# Altium footprint library 0.PCB1.PcbLib: 27 footprints (part 1 of 3)
Each footprint in its own frame and in the unit in brackets; x right, y up, seen from the top. Pads: shape width x height; smd on the part's side, far side on the other; paste and mask are expansions set on the pad; w line width, h text height; cw(c..) or ccw(c..) is an arc to the next point about the centre after c.
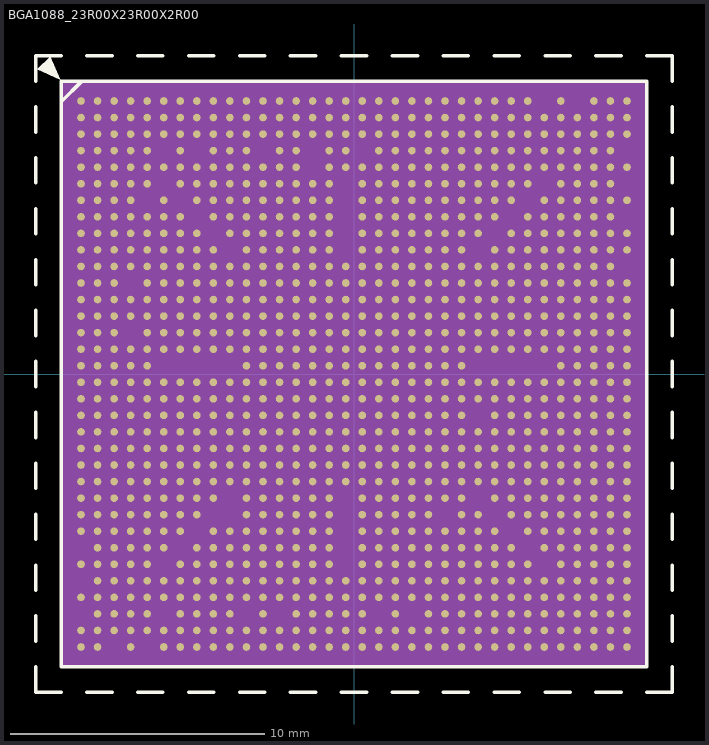
[diagram p0: the footprint, top view; thin cyan lines are the x and y axes]

## BGA1088_23R00X23R00X2R00 [mm]
pads (1088):
  round 0.3 smd: A1(-10.725,10.725) A2(-10.075,10.725) A3(-9.425,10.725) A4(-8.775,10.725) A5(-8.125,10.725) A6(-7.475,10.725) A7(-6.825,10.725) A8(-6.175,10.725) A9(-5.525,10.725) A10(-4.875,10.725) A11(-4.225,10.725) A12(-3.575,10.725) A13(-2.925,10.725) A14(-2.275,10.725) A15(-1.625,10.725) A16(-0.975,10.725) A17(-0.325,10.725) A18(0.325,10.725) A19(0.975,10.725) A20(1.625,10.725) A21(2.275,10.725) A22(2.925,10.725) A23(3.575,10.725) A24(4.225,10.725) A25(4.875,10.725) A26(5.525,10.725) A27(6.175,10.725) A28(6.825,10.725) A30(8.125,10.725) A32(9.425,10.725) A33(10.075,10.725) A34(10.725,10.725) AA1(-10.725,-2.275) AA2(-10.075,-2.275) AA3(-9.425,-2.275) AA4(-8.775,-2.275) AA5(-8.125,-2.275) AA6(-7.475,-2.275) AA7(-6.825,-2.275) AA8(-6.175,-2.275) AA9(-5.525,-2.275) AA10(-4.875,-2.275) AA11(-4.225,-2.275) AA12(-3.575,-2.275) AA13(-2.925,-2.275) AA14(-2.275,-2.275) AA15(-1.625,-2.275) AA16(-0.975,-2.275) AA17(-0.325,-2.275) AA18(0.325,-2.275) AA19(0.975,-2.275) AA20(1.625,-2.275) AA21(2.275,-2.275) AA22(2.925,-2.275) AA23(3.575,-2.275) AA24(4.225,-2.275) AA25(4.875,-2.275) AA26(5.525,-2.275) AA27(6.175,-2.275) AA28(6.825,-2.275) AA29(7.475,-2.275) AA30(8.125,-2.275) AA31(8.775,-2.275) AA32(9.425,-2.275) AA33(10.075,-2.275) AA34(10.725,-2.275) AB1(-10.725,-2.925) AB2(-10.075,-2.925) AB3(-9.425,-2.925) AB4(-8.775,-2.925) AB5(-8.125,-2.925) AB6(-7.475,-2.925) AB7(-6.825,-2.925) AB8(-6.175,-2.925) AB9(-5.525,-2.925) AB10(-4.875,-2.925) AB11(-4.225,-2.925) AB12(-3.575,-2.925) AB13(-2.925,-2.925) AB14(-2.275,-2.925) AB15(-1.625,-2.925) AB16(-0.975,-2.925) AB17(-0.325,-2.925) AB18(0.325,-2.925) AB19(0.975,-2.925) AB20(1.625,-2.925) AB21(2.275,-2.925) AB22(2.925,-2.925) AB23(3.575,-2.925) AB24(4.225,-2.925) AB25(4.875,-2.925) AB26(5.525,-2.925) AB27(6.175,-2.925) AB28(6.825,-2.925) AB29(7.475,-2.925) AB30(8.125,-2.925) AB31(8.775,-2.925) AB32(9.425,-2.925) AB33(10.075,-2.925) AB34(10.725,-2.925) AC1(-10.725,-3.575) AC2(-10.075,-3.575) AC3(-9.425,-3.575) AC4(-8.775,-3.575) AC5(-8.125,-3.575) AC6(-7.475,-3.575) AC7(-6.825,-3.575) AC8(-6.175,-3.575) AC9(-5.525,-3.575) AC10(-4.875,-3.575) AC11(-4.225,-3.575) AC12(-3.575,-3.575) AC13(-2.925,-3.575) AC14(-2.275,-3.575) AC15(-1.625,-3.575) AC16(-0.975,-3.575) AC17(-0.325,-3.575) AC18(0.325,-3.575) AC19(0.975,-3.575) AC20(1.625,-3.575) AC21(2.275,-3.575) AC22(2.925,-3.575) AC23(3.575,-3.575) AC24(4.225,-3.575) AC25(4.875,-3.575) AC26(5.525,-3.575) AC27(6.175,-3.575) AC28(6.825,-3.575) AC29(7.475,-3.575) AC30(8.125,-3.575) AC31(8.775,-3.575) AC32(9.425,-3.575) AC33(10.075,-3.575) AC34(10.725,-3.575) AD1(-10.725,-4.225) AD2(-10.075,-4.225) AD3(-9.425,-4.225) AD4(-8.775,-4.225) AD5(-8.125,-4.225) AD6(-7.475,-4.225) AD7(-6.825,-4.225) AD8(-6.175,-4.225) AD9(-5.525,-4.225) AD10(-4.875,-4.225) AD11(-4.225,-4.225) AD12(-3.575,-4.225) AD13(-2.925,-4.225) AD14(-2.275,-4.225) AD15(-1.625,-4.225) AD16(-0.975,-4.225) AD17(-0.325,-4.225) AD18(0.325,-4.225) AD19(0.975,-4.225) AD20(1.625,-4.225) AD21(2.275,-4.225) AD22(2.925,-4.225) AD23(3.575,-4.225) AD24(4.225,-4.225) AD25(4.875,-4.225) AD26(5.525,-4.225) AD27(6.175,-4.225) AD28(6.825,-4.225) AD29(7.475,-4.225) AD30(8.125,-4.225) AD31(8.775,-4.225) AD32(9.425,-4.225) AD33(10.075,-4.225) AD34(10.725,-4.225) AE1(-10.725,-4.875) AE2(-10.075,-4.875) AE3(-9.425,-4.875) AE4(-8.775,-4.875) AE5(-8.125,-4.875) AE6(-7.475,-4.875) AE7(-6.825,-4.875) AE8(-6.175,-4.875) AE9(-5.525,-4.875) AE11(-4.225,-4.875) AE12(-3.575,-4.875) AE13(-2.925,-4.875) AE14(-2.275,-4.875) AE15(-1.625,-4.875) AE16(-0.975,-4.875) AE18(0.325,-4.875) AE19(0.975,-4.875) AE20(1.625,-4.875) AE21(2.275,-4.875) AE22(2.925,-4.875) AE23(3.575,-4.875) AE24(4.225,-4.875) AE26(5.525,-4.875) AE27(6.175,-4.875) AE28(6.825,-4.875) AE29(7.475,-4.875) AE30(8.125,-4.875) AE31(8.775,-4.875) AE32(9.425,-4.875) AE33(10.075,-4.875) AE34(10.725,-4.875) AF1(-10.725,-5.525) AF2(-10.075,-5.525) AF3(-9.425,-5.525) AF4(-8.775,-5.525) AF5(-8.125,-5.525) AF6(-7.475,-5.525) AF7(-6.825,-5.525) AF8(-6.175,-5.525) AF11(-4.225,-5.525) AF12(-3.575,-5.525) AF13(-2.925,-5.525) AF14(-2.275,-5.525) AF15(-1.625,-5.525) AF16(-0.975,-5.525) AF18(0.325,-5.525) AF19(0.975,-5.525) AF20(1.625,-5.525) AF21(2.275,-5.525) AF22(2.925,-5.525) AF24(4.225,-5.525) AF25(4.875,-5.525) AF27(6.175,-5.525) AF28(6.825,-5.525) AF29(7.475,-5.525) AF30(8.125,-5.525) AF31(8.775,-5.525) AF32(9.425,-5.525) AF33(10.075,-5.525) AF34(10.725,-5.525) AG1(-10.725,-6.175) AG2(-10.075,-6.175) AG3(-9.425,-6.175) AG4(-8.775,-6.175) AG5(-8.125,-6.175) AG6(-7.475,-6.175) AG7(-6.825,-6.175) AG9(-5.525,-6.175) AG10(-4.875,-6.175) AG11(-4.225,-6.175) AG12(-3.575,-6.175) AG13(-2.925,-6.175) AG14(-2.275,-6.175) AG15(-1.625,-6.175) AG16(-0.975,-6.175) AG18(0.325,-6.175) AG19(0.975,-6.175) AG20(1.625,-6.175) AG21(2.275,-6.175) AG22(2.925,-6.175) AG23(3.575,-6.175) AG24(4.225,-6.175) AG25(4.875,-6.175) AG26(5.525,-6.175) AG28(6.825,-6.175) AG29(7.475,-6.175) AG30(8.125,-6.175) AG31(8.775,-6.175) AG32(9.425,-6.175) AG33(10.075,-6.175) AG34(10.725,-6.175) AH2(-10.075,-6.825) AH3(-9.425,-6.825) AH4(-8.775,-6.825) AH5(-8.125,-6.825) AH6(-7.475,-6.825) AH8(-6.175,-6.825) AH9(-5.525,-6.825) AH10(-4.875,-6.825) AH11(-4.225,-6.825) AH12(-3.575,-6.825) AH13(-2.925,-6.825) AH14(-2.275,-6.825) AH15(-1.625,-6.825) AH16(-0.975,-6.825) AH18(0.325,-6.825) AH19(0.975,-6.825) AH20(1.625,-6.825) AH21(2.275,-6.825) AH22(2.925,-6.825) AH23(3.575,-6.825) AH24(4.225,-6.825) AH25(4.875,-6.825) AH26(5.525,-6.825) AH27(6.175,-6.825) AH29(7.475,-6.825) AH30(8.125,-6.825) AH31(8.775,-6.825) AH32(9.425,-6.825) AH33(10.075,-6.825) AH34(10.725,-6.825) AJ1(-10.725,-7.475) AJ2(-10.075,-7.475) AJ3(-9.425,-7.475) AJ4(-8.775,-7.475) AJ5(-8.125,-7.475) AJ7(-6.825,-7.475) AJ8(-6.175,-7.475) AJ9(-5.525,-7.475) AJ10(-4.875,-7.475) AJ11(-4.225,-7.475) AJ12(-3.575,-7.475) AJ13(-2.925,-7.475) AJ14(-2.275,-7.475) AJ15(-1.625,-7.475) AJ16(-0.975,-7.475) AJ18(0.325,-7.475) AJ19(0.975,-7.475) AJ20(1.625,-7.475) AJ21(2.275,-7.475) AJ22(2.925,-7.475) AJ23(3.575,-7.475) AJ24(4.225,-7.475) AJ25(4.875,-7.475) AJ26(5.525,-7.475) AJ27(6.175,-7.475) AJ28(6.825,-7.475) AJ30(8.125,-7.475) AJ31(8.775,-7.475) AJ32(9.425,-7.475) AJ33(10.075,-7.475) AJ34(10.725,-7.475) AK2(-10.075,-8.125) AK3(-9.425,-8.125) AK4(-8.775,-8.125) AK5(-8.125,-8.125) AK6(-7.475,-8.125) AK7(-6.825,-8.125) AK8(-6.175,-8.125) AK9(-5.525,-8.125) AK10(-4.875,-8.125) AK11(-4.225,-8.125) AK12(-3.575,-8.125) AK13(-2.925,-8.125) AK14(-2.275,-8.125) AK15(-1.625,-8.125) AK16(-0.975,-8.125) AK17(-0.325,-8.125) AK18(0.325,-8.125) AK19(0.975,-8.125) AK20(1.625,-8.125) AK21(2.275,-8.125) AK22(2.925,-8.125) AK23(3.575,-8.125) AK24(4.225,-8.125) AK25(4.875,-8.125) AK26(5.525,-8.125) AK27(6.175,-8.125) AK28(6.825,-8.125) AK29(7.475,-8.125) AK30(8.125,-8.125) AK31(8.775,-8.125) AK32(9.425,-8.125) AK33(10.075,-8.125) AK34(10.725,-8.125) AL1(-10.725,-8.775) AL2(-10.075,-8.775) AL3(-9.425,-8.775) AL4(-8.775,-8.775) AL5(-8.125,-8.775) AL6(-7.475,-8.775) AL7(-6.825,-8.775) AL8(-6.175,-8.775) AL9(-5.525,-8.775) AL10(-4.875,-8.775) AL11(-4.225,-8.775) AL12(-3.575,-8.775) AL13(-2.925,-8.775) AL14(-2.275,-8.775) AL15(-1.625,-8.775) AL16(-0.975,-8.775) AL17(-0.325,-8.775) AL18(0.325,-8.775) AL19(0.975,-8.775) AL20(1.625,-8.775) AL21(2.275,-8.775) AL22(2.925,-8.775) AL23(3.575,-8.775) AL24(4.225,-8.775) AL25(4.875,-8.775) AL26(5.525,-8.775) AL27(6.175,-8.775) AL28(6.825,-8.775) AL29(7.475,-8.775) AL30(8.125,-8.775) AL31(8.775,-8.775) AL32(9.425,-8.775) AL33(10.075,-8.775) AL34(10.725,-8.775) AM2(-10.075,-9.425) AM3(-9.425,-9.425) AM4(-8.775,-9.425) AM5(-8.125,-9.425) AM7(-6.825,-9.425) AM8(-6.175,-9.425) AM9(-5.525,-9.425) AM10(-4.875,-9.425) AM12(-3.575,-9.425) AM14(-2.275,-9.425) AM15(-1.625,-9.425) AM16(-0.975,-9.425) AM17(-0.325,-9.425) AM18(0.325,-9.425) AM20(1.625,-9.425) AM22(2.925,-9.425) AM23(3.575,-9.425) AM24(4.225,-9.425) AM25(4.875,-9.425) AM26(5.525,-9.425) AM27(6.175,-9.425) AM28(6.825,-9.425) AM29(7.475,-9.425) AM30(8.125,-9.425) AM31(8.775,-9.425) AM32(9.425,-9.425) AM33(10.075,-9.425) AM34(10.725,-9.425) AN1(-10.725,-10.075) AN2(-10.075,-10.075) AN3(-9.425,-10.075) AN4(-8.775,-10.075) AN5(-8.125,-10.075) AN6(-7.475,-10.075) AN7(-6.825,-10.075) AN8(-6.175,-10.075) AN9(-5.525,-10.075) AN10(-4.875,-10.075) AN11(-4.225,-10.075) AN12(-3.575,-10.075) AN13(-2.925,-10.075) AN14(-2.275,-10.075) AN15(-1.625,-10.075) AN16(-0.975,-10.075) AN17(-0.325,-10.075) AN18(0.325,-10.075) AN19(0.975,-10.075) AN20(1.625,-10.075) AN21(2.275,-10.075) AN22(2.925,-10.075) AN23(3.575,-10.075) AN24(4.225,-10.075) AN25(4.875,-10.075) AN26(5.525,-10.075) AN27(6.175,-10.075) AN28(6.825,-10.075) AN29(7.475,-10.075) AN30(8.125,-10.075) AN31(8.775,-10.075) AN32(9.425,-10.075) AN33(10.075,-10.075) AN34(10.725,-10.075) AP1(-10.725,-10.725) AP2(-10.075,-10.725) AP4(-8.775,-10.725) AP6(-7.475,-10.725) AP7(-6.825,-10.725) AP8(-6.175,-10.725) AP9(-5.525,-10.725) AP10(-4.875,-10.725) AP11(-4.225,-10.725) AP12(-3.575,-10.725) AP13(-2.925,-10.725) AP14(-2.275,-10.725) AP15(-1.625,-10.725) AP16(-0.975,-10.725) AP17(-0.325,-10.725) AP18(0.325,-10.725) AP19(0.975,-10.725) AP20(1.625,-10.725) AP21(2.275,-10.725) AP22(2.925,-10.725) AP23(3.575,-10.725) AP24(4.225,-10.725) AP25(4.875,-10.725) AP26(5.525,-10.725) AP27(6.175,-10.725) AP28(6.825,-10.725) AP29(7.475,-10.725) AP30(8.125,-10.725) AP31(8.775,-10.725) AP32(9.425,-10.725) AP33(10.075,-10.725) AP34(10.725,-10.725) B1(-10.725,10.075) B2(-10.075,10.075) B3(-9.425,10.075) B4(-8.775,10.075) B5(-8.125,10.075) B6(-7.475,10.075) B7(-6.825,10.075) B8(-6.175,10.075) B9(-5.525,10.075) B10(-4.875,10.075) B11(-4.225,10.075) B12(-3.575,10.075) B13(-2.925,10.075) B14(-2.275,10.075) B15(-1.625,10.075) B16(-0.975,10.075) B17(-0.325,10.075) B18(0.325,10.075) B19(0.975,10.075) B20(1.625,10.075) B21(2.275,10.075) B22(2.925,10.075) B23(3.575,10.075) B24(4.225,10.075) B25(4.875,10.075) B26(5.525,10.075) B27(6.175,10.075) B28(6.825,10.075) B29(7.475,10.075) B30(8.125,10.075) B31(8.775,10.075) B32(9.425,10.075) B33(10.075,10.075) B34(10.725,10.075) C1(-10.725,9.425) C2(-10.075,9.425) C3(-9.425,9.425) C4(-8.775,9.425) C5(-8.125,9.425) C6(-7.475,9.425) C7(-6.825,9.425) C8(-6.175,9.425) C9(-5.525,9.425) C10(-4.875,9.425) C11(-4.225,9.425) C12(-3.575,9.425) C13(-2.925,9.425) C14(-2.275,9.425) C15(-1.625,9.425) C16(-0.975,9.425) C17(-0.325,9.425) C18(0.325,9.425) C19(0.975,9.425) C20(1.625,9.425) C21(2.275,9.425) C22(2.925,9.425) C23(3.575,9.425) C24(4.225,9.425) C25(4.875,9.425) C26(5.525,9.425) C27(6.175,9.425) C28(6.825,9.425) C29(7.475,9.425) C30(8.125,9.425) C31(8.775,9.425) C32(9.425,9.425) C33(10.075,9.425) C34(10.725,9.425) D1(-10.725,8.775) D2(-10.075,8.775) D3(-9.425,8.775) D4(-8.775,8.775) D5(-8.125,8.775) D7(-6.825,8.775) D9(-5.525,8.775) D10(-4.875,8.775) D11(-4.225,8.775) D13(-2.925,8.775) D14(-2.275,8.775) D16(-0.975,8.775) D17(-0.325,8.775) D19(0.975,8.775) D20(1.625,8.775) D21(2.275,8.775) D22(2.925,8.775) D23(3.575,8.775) D24(4.225,8.775) D25(4.875,8.775) D26(5.525,8.775) D27(6.175,8.775) D28(6.825,8.775) D29(7.475,8.775) D30(8.125,8.775) D31(8.775,8.775) D32(9.425,8.775) D33(10.075,8.775) E1(-10.725,8.125) E2(-10.075,8.125) E3(-9.425,8.125) E4(-8.775,8.125) E5(-8.125,8.125) E6(-7.475,8.125) E7(-6.825,8.125) E8(-6.175,8.125) E9(-5.525,8.125) E10(-4.875,8.125) E11(-4.225,8.125) E12(-3.575,8.125) E13(-2.925,8.125) E14(-2.275,8.125) E16(-0.975,8.125) E17(-0.325,8.125) E18(0.325,8.125) E19(0.975,8.125) E20(1.625,8.125) E21(2.275,8.125) E22(2.925,8.125) E23(3.575,8.125) E24(4.225,8.125) E25(4.875,8.125) E26(5.525,8.125) E27(6.175,8.125) E28(6.825,8.125) E29(7.475,8.125) E30(8.125,8.125) E31(8.775,8.125) E32(9.425,8.125) E33(10.075,8.125) E34(10.725,8.125) F1(-10.725,7.475) F2(-10.075,7.475) F3(-9.425,7.475) F4(-8.775,7.475) F5(-8.125,7.475) F7(-6.825,7.475) F8(-6.175,7.475) F9(-5.525,7.475) F10(-4.875,7.475) F11(-4.225,7.475) F12(-3.575,7.475) F13(-2.925,7.475) F14(-2.275,7.475) F15(-1.625,7.475) F16(-0.975,7.475) F18(0.325,7.475) F19(0.975,7.475) F20(1.625,7.475) F21(2.275,7.475) F22(2.925,7.475) F23(3.575,7.475) F24(4.225,7.475) F25(4.875,7.475) F26(5.525,7.475) F27(6.175,7.475) F28(6.825,7.475) F30(8.125,7.475) F31(8.775,7.475) F32(9.425,7.475) F33(10.075,7.475) G1(-10.725,6.825) G2(-10.075,6.825) G3(-9.425,6.825) G4(-8.775,6.825) G6(-7.475,6.825) G8(-6.175,6.825) G9(-5.525,6.825) G10(-4.875,6.825) G11(-4.225,6.825) G12(-3.575,6.825) G13(-2.925,6.825) G14(-2.275,6.825) G15(-1.625,6.825) G16(-0.975,6.825) G18(0.325,6.825) G19(0.975,6.825) G20(1.625,6.825) G21(2.275,6.825) G22(2.925,6.825) G23(3.575,6.825) G24(4.225,6.825) G25(4.875,6.825) G26(5.525,6.825) G27(6.175,6.825) G29(7.475,6.825) G30(8.125,6.825) G31(8.775,6.825) G32(9.425,6.825) G33(10.075,6.825) G34(10.725,6.825) H1(-10.725,6.175) H2(-10.075,6.175) H3(-9.425,6.175) H4(-8.775,6.175) H5(-8.125,6.175) H6(-7.475,6.175) H7(-6.825,6.175) H9(-5.525,6.175) H10(-4.875,6.175) H11(-4.225,6.175) H12(-3.575,6.175) H13(-2.925,6.175) H14(-2.275,6.175) H15(-1.625,6.175) H16(-0.975,6.175) H18(0.325,6.175) H19(0.975,6.175) H20(1.625,6.175) H21(2.275,6.175) H22(2.925,6.175) H23(3.575,6.175) H24(4.225,6.175) H25(4.875,6.175) H26(5.525,6.175) H28(6.825,6.175) H29(7.475,6.175) H30(8.125,6.175) H31(8.775,6.175) H32(9.425,6.175) H33(10.075,6.175) J1(-10.725,5.525) J2(-10.075,5.525) J3(-9.425,5.525) J4(-8.775,5.525) J5(-8.125,5.525) J6(-7.475,5.525) J7(-6.825,5.525) J8(-6.175,5.525) J10(-4.875,5.525) J11(-4.225,5.525) J12(-3.575,5.525) J13(-2.925,5.525) J14(-2.275,5.525) J15(-1.625,5.525) J16(-0.975,5.525) J18(0.325,5.525) J19(0.975,5.525) J20(1.625,5.525) J21(2.275,5.525) J22(2.925,5.525) J23(3.575,5.525) J24(4.225,5.525) J25(4.875,5.525) J27(6.175,5.525) J28(6.825,5.525) J29(7.475,5.525) J30(8.125,5.525) J31(8.775,5.525) J32(9.425,5.525) J33(10.075,5.525) J34(10.725,5.525) K1(-10.725,4.875) K2(-10.075,4.875) K3(-9.425,4.875) K4(-8.775,4.875) K5(-8.125,4.875) K6(-7.475,4.875) K7(-6.825,4.875) K8(-6.175,4.875) K9(-5.525,4.875) K11(-4.225,4.875) K12(-3.575,4.875) K13(-2.925,4.875) K14(-2.275,4.875) K15(-1.625,4.875) K16(-0.975,4.875) K18(0.325,4.875) K19(0.975,4.875) K20(1.625,4.875) K21(2.275,4.875) K22(2.925,4.875) K23(3.575,4.875) K24(4.225,4.875) K26(5.525,4.875) K27(6.175,4.875) K28(6.825,4.875) K29(7.475,4.875) K30(8.125,4.875) K31(8.775,4.875) K32(9.425,4.875) K33(10.075,4.875) K34(10.725,4.875) L1(-10.725,4.225) L2(-10.075,4.225) L3(-9.425,4.225) L4(-8.775,4.225) L5(-8.125,4.225) L6(-7.475,4.225) L7(-6.825,4.225) L8(-6.175,4.225) L9(-5.525,4.225) L10(-4.875,4.225) L11(-4.225,4.225) L12(-3.575,4.225) L13(-2.925,4.225) L14(-2.275,4.225) L15(-1.625,4.225) L16(-0.975,4.225) L17(-0.325,4.225) L18(0.325,4.225) L19(0.975,4.225) L20(1.625,4.225) L21(2.275,4.225) L22(2.925,4.225) L23(3.575,4.225) L24(4.225,4.225) L25(4.875,4.225) L26(5.525,4.225) L27(6.175,4.225) L28(6.825,4.225) L29(7.475,4.225) L30(8.125,4.225) L31(8.775,4.225) L32(9.425,4.225) L33(10.075,4.225) M1(-10.725,3.575) M2(-10.075,3.575) M3(-9.425,3.575) M5(-8.125,3.575) M6(-7.475,3.575) M7(-6.825,3.575) M8(-6.175,3.575) M9(-5.525,3.575) M10(-4.875,3.575) M11(-4.225,3.575) M12(-3.575,3.575) M13(-2.925,3.575) M14(-2.275,3.575) M15(-1.625,3.575) M16(-0.975,3.575) M17(-0.325,3.575) M18(0.325,3.575) M19(0.975,3.575) M20(1.625,3.575) M21(2.275,3.575) M22(2.925,3.575) M23(3.575,3.575) M24(4.225,3.575) M25(4.875,3.575) M26(5.525,3.575) M27(6.175,3.575) M28(6.825,3.575) M29(7.475,3.575) M30(8.125,3.575) M31(8.775,3.575) M32(9.425,3.575) M33(10.075,3.575) M34(10.725,3.575) N1(-10.725,2.925) N2(-10.075,2.925) N3(-9.425,2.925) N4(-8.775,2.925) N5(-8.125,2.925) N6(-7.475,2.925) N7(-6.825,2.925) N8(-6.175,2.925) N9(-5.525,2.925) N10(-4.875,2.925) N11(-4.225,2.925) N12(-3.575,2.925) N13(-2.925,2.925) N14(-2.275,2.925) N15(-1.625,2.925) N16(-0.975,2.925) N17(-0.325,2.925) N18(0.325,2.925) N19(0.975,2.925) N20(1.625,2.925) N21(2.275,2.925) N22(2.925,2.925) N23(3.575,2.925) N24(4.225,2.925) N25(4.875,2.925) N26(5.525,2.925) N27(6.175,2.925) N28(6.825,2.925) N29(7.475,2.925) N30(8.125,2.925) N31(8.775,2.925) N32(9.425,2.925) N33(10.075,2.925) N34(10.725,2.925) P1(-10.725,2.275) P2(-10.075,2.275) P3(-9.425,2.275) P4(-8.775,2.275) P5(-8.125,2.275) P6(-7.475,2.275) P7(-6.825,2.275) P8(-6.175,2.275) P9(-5.525,2.275) P10(-4.875,2.275) P11(-4.225,2.275) P12(-3.575,2.275) P13(-2.925,2.275) P14(-2.275,2.275) P15(-1.625,2.275) P16(-0.975,2.275) P17(-0.325,2.275) P18(0.325,2.275) P19(0.975,2.275) P20(1.625,2.275) P21(2.275,2.275) P22(2.925,2.275) P23(3.575,2.275) P24(4.225,2.275) P25(4.875,2.275) P26(5.525,2.275) P27(6.175,2.275) P28(6.825,2.275) P29(7.475,2.275) P30(8.125,2.275) P31(8.775,2.275) P32(9.425,2.275) P33(10.075,2.275) P34(10.725,2.275) R1(-10.725,1.625) R2(-10.075,1.625) R3(-9.425,1.625) R5(-8.125,1.625) R6(-7.475,1.625) R7(-6.825,1.625) R8(-6.175,1.625) R9(-5.525,1.625) R10(-4.875,1.625) R11(-4.225,1.625) R12(-3.575,1.625) R13(-2.925,1.625) R14(-2.275,1.625) R15(-1.625,1.625) R16(-0.975,1.625) R17(-0.325,1.625) R18(0.325,1.625) R19(0.975,1.625) R20(1.625,1.625) R21(2.275,1.625) R22(2.925,1.625) R23(3.575,1.625) R24(4.225,1.625) R25(4.875,1.625) R26(5.525,1.625) R27(6.175,1.625) R28(6.825,1.625) R29(7.475,1.625) R30(8.125,1.625) R31(8.775,1.625) R32(9.425,1.625) R33(10.075,1.625) R34(10.725,1.625) T1(-10.725,0.975) T2(-10.075,0.975) T3(-9.425,0.975) T4(-8.775,0.975) T5(-8.125,0.975) T6(-7.475,0.975) T7(-6.825,0.975) T8(-6.175,0.975) T9(-5.525,0.975) T10(-4.875,0.975) T11(-4.225,0.975) T12(-3.575,0.975) T13(-2.925,0.975) T14(-2.275,0.975) T15(-1.625,0.975) T16(-0.975,0.975) T17(-0.325,0.975) T18(0.325,0.975) T19(0.975,0.975) T20(1.625,0.975) T21(2.275,0.975) T22(2.925,0.975) T23(3.575,0.975) T24(4.225,0.975) T25(4.875,0.975) T26(5.525,0.975) T27(6.175,0.975) T28(6.825,0.975) T29(7.475,0.975) T30(8.125,0.975) T31(8.775,0.975) T32(9.425,0.975) T33(10.075,0.975) T34(10.725,0.975) U1(-10.725,0.325) U2(-10.075,0.325) U3(-9.425,0.325) U4(-8.775,0.325) U5(-8.125,0.325) U11(-4.225,0.325) U12(-3.575,0.325) U13(-2.925,0.325) U14(-2.275,0.325) U15(-1.625,0.325) U16(-0.975,0.325) U17(-0.325,0.325) U18(0.325,0.325) U19(0.975,0.325) U20(1.625,0.325) U21(2.275,0.325) U22(2.925,0.325) U23(3.575,0.325) U24(4.225,0.325) U30(8.125,0.325) U31(8.775,0.325) U32(9.425,0.325) U33(10.075,0.325) U34(10.725,0.325) V1(-10.725,-0.325) V2(-10.075,-0.325) V3(-9.425,-0.325) V4(-8.775,-0.325) V5(-8.125,-0.325) V6(-7.475,-0.325) V7(-6.825,-0.325) V8(-6.175,-0.325) V9(-5.525,-0.325) V10(-4.875,-0.325) V11(-4.225,-0.325) V12(-3.575,-0.325) V13(-2.925,-0.325) V14(-2.275,-0.325) V15(-1.625,-0.325) V16(-0.975,-0.325) V17(-0.325,-0.325) V18(0.325,-0.325) V19(0.975,-0.325) V20(1.625,-0.325) V21(2.275,-0.325) V22(2.925,-0.325) V23(3.575,-0.325) V24(4.225,-0.325) V25(4.875,-0.325) V26(5.525,-0.325) V27(6.175,-0.325) V28(6.825,-0.325) V29(7.475,-0.325) V30(8.125,-0.325) V31(8.775,-0.325) V32(9.425,-0.325) V33(10.075,-0.325) V34(10.725,-0.325) W1(-10.725,-0.975) W2(-10.075,-0.975) W3(-9.425,-0.975) W4(-8.775,-0.975) W5(-8.125,-0.975) W6(-7.475,-0.975) W7(-6.825,-0.975) W8(-6.175,-0.975) W9(-5.525,-0.975) W10(-4.875,-0.975) W11(-4.225,-0.975) W12(-3.575,-0.975) W13(-2.925,-0.975) W14(-2.275,-0.975) W15(-1.625,-0.975) W16(-0.975,-0.975) W17(-0.325,-0.975) W18(0.325,-0.975) W19(0.975,-0.975) W20(1.625,-0.975) W21(2.275,-0.975) W22(2.925,-0.975) W23(3.575,-0.975) W24(4.225,-0.975) W25(4.875,-0.975) W26(5.525,-0.975) W27(6.175,-0.975) W28(6.825,-0.975) W29(7.475,-0.975) W30(8.125,-0.975) W31(8.775,-0.975) W32(9.425,-0.975) W33(10.075,-0.975) W34(10.725,-0.975) Y1(-10.725,-1.625) Y2(-10.075,-1.625) Y3(-9.425,-1.625) Y4(-8.775,-1.625) Y5(-8.125,-1.625) Y6(-7.475,-1.625) Y7(-6.825,-1.625) Y8(-6.175,-1.625) Y9(-5.525,-1.625) Y10(-4.875,-1.625) Y11(-4.225,-1.625) Y12(-3.575,-1.625) Y13(-2.925,-1.625) Y14(-2.275,-1.625) Y15(-1.625,-1.625) Y16(-0.975,-1.625) Y17(-0.325,-1.625) Y18(0.325,-1.625) Y19(0.975,-1.625) Y20(1.625,-1.625) Y21(2.275,-1.625) Y22(2.925,-1.625) Y23(3.575,-1.625) Y24(4.225,-1.625) Y26(5.525,-1.625) Y27(6.175,-1.625) Y28(6.825,-1.625) Y29(7.475,-1.625) Y30(8.125,-1.625) Y31(8.775,-1.625) Y32(9.425,-1.625) Y33(10.075,-1.625) Y34(10.725,-1.625)
Top Overlay:
  dashed: -12.437,11.974 -11.531,11.563 -11.943,12.468
  lines w0.127: -12.5,-11.5 -12.5,-12.5 -11.5,-12.5 ; -12.5,-10.5 -12.5,-9.5 ; -12.5,-8.5 -12.5,-7.5 ; -12.5,-6.5 -12.5,-5.5 ; -12.5,-4.5 -12.5,-3.5 ; -12.5,-2.5 -12.5,-1.5 ; -12.5,-0.5 -12.5,0.5 ; -12.5,1.5 -12.5,2.5 ; -12.5,3.5 -12.5,4.5 ; -12.5,5.5 -12.5,6.5 ; -12.5,7.5 -12.5,8.5 ; -12.5,9.5 -12.5,10.5 ; -12.5,11.5 -12.5,12.5 -11.5,12.5 ; -10.5,-12.5 -9.5,-12.5 ; -10.5,12.5 -9.5,12.5 ; -8.5,-12.5 -7.5,-12.5 ; -8.5,12.5 -7.5,12.5 ; -6.5,-12.5 -5.5,-12.5 ; -6.5,12.5 -5.5,12.5 ; -4.5,-12.5 -3.5,-12.5 ; -4.5,12.5 -3.5,12.5 ; -2.5,-12.5 -1.5,-12.5 ; -2.5,12.5 -1.5,12.5 ; -0.5,-12.5 0.5,-12.5 ; -0.5,12.5 0.5,12.5 ; 1.5,-12.5 2.5,-12.5 ; 1.5,12.5 2.5,12.5 ; 3.5,-12.5 4.5,-12.5 ; 3.5,12.5 4.5,12.5 ; 5.5,-12.5 6.5,-12.5 ; 5.5,12.5 6.5,12.5 ; 7.5,-12.5 8.5,-12.5 ; 7.5,12.5 8.5,12.5 ; 9.5,-12.5 10.5,-12.5 ; 9.5,12.5 10.5,12.5 ; 11.5,-12.5 12.5,-12.5 12.5,-11.5 ; 11.5,12.5 12.5,12.5 12.5,11.5 ; 12.5,-10.5 12.5,-9.5 ; 12.5,-8.5 12.5,-7.5 ; 12.5,-6.5 12.5,-5.5 ; 12.5,-4.5 12.5,-3.5 ; 12.5,-2.5 12.5,-1.5 ; 12.5,-0.5 12.5,0.5 ; 12.5,1.5 12.5,2.5 ; 12.5,3.5 12.5,4.5 ; 12.5,5.5 12.5,6.5 ; 12.5,7.5 12.5,8.5 ; 12.5,9.5 12.5,10.5
  lines w0.15: -11.463,10.733 -10.731,11.465 ; -11.5,-11.5 11.5,-11.5 11.5,11.5 -11.5,11.5 -11.5,-11.5
Top 3D Body:
  region: -11.5,-11.5 -11.5,11.5 11.5,11.5 11.5,-11.5
Mechanical 18:
  text "T5" at -7.965,0.975 h0.18
  text "M7" at -6.665,3.575 h0.18
  text "K7" at -6.665,4.875 h0.18
  text "V6" at -7.315,-0.325 h0.18
  text "K4" at -8.615,4.875 h0.18
  text "V7" at -6.665,-0.325 h0.18
  text "K5" at -7.965,4.875 h0.18
  text "W5" at -7.965,-0.975 h0.18
  text "H5" at -7.965,6.175 h0.18
  text "W4" at -8.615,-0.975 h0.18
  text "H4" at -8.615,6.175 h0.18
  text "D10" at -4.635,8.775 h0.18
  text "D14" at -2.035,8.775 h0.18
  text "E10" at -4.635,8.125 h0.18
  text "C19" at 1.215,9.425 h0.18
  text "H9" at -5.365,6.175 h0.18
  text "D17" at -0.085,8.775 h0.18
  text "G9" at -5.365,6.825 h0.18
  text "E17" at -0.085,8.125 h0.18
  text "E7" at -6.665,8.125 h0.18
  text "G18" at 0.565,6.825 h0.18
  text "D7" at -6.665,8.775 h0.18
  text "H18" at 0.565,6.175 h0.18
  text "L30" at 8.365,4.225 h0.18
  text "F26" at 5.765,7.475 h0.18
  text "F27" at 6.415,7.475 h0.18
  text "F28" at 7.065,7.475 h0.18
  text "G26" at 5.765,6.825 h0.18
  text "AB31" at 9.095,-2.925 h0.18
  text "AB30" at 8.445,-2.925 h0.18
  text "AC30" at 8.445,-3.575 h0.18
  text "AE30" at 8.445,-4.875 h0.18
  text "AF33" at 10.395,-5.525 h0.18
  text "AH24" at 4.545,-6.825 h0.18
  text "AG23" at 3.895,-6.175 h0.18
  text "AG25" at 5.195,-6.175 h0.18
  text "AG24" at 4.545,-6.175 h0.18
  text "AA27" at 6.495,-2.275 h0.18
  text "AL14" at -1.955,-8.775 h0.18
  text "AK8" at -5.935,-8.125 h0.18
  text "AL8" at -5.935,-8.775 h0.18
  text "L33" at 10.315,4.225 h0.18
  text "L32" at 9.665,4.225 h0.18
  text "H33" at 10.315,6.175 h0.18
  text "H32" at 9.665,6.175 h0.18
  text "G30" at 8.365,6.825 h0.18
  text "G31" at 9.015,6.825 h0.18
  text "AF20" at 1.945,-5.525 h0.18
  text "AP31" at 9.095,-10.725 h0.18
  text "AN32" at 9.745,-10.075 h0.18
  text "AP29" at 7.795,-10.725 h0.18
  text "AN29" at 7.795,-10.075 h0.18
  text "AP30" at 8.445,-10.725 h0.18
  text "AN30" at 8.445,-10.075 h0.18
  text "AP32" at 9.745,-10.725 h0.18
  text "AN33" at 10.395,-10.075 h0.18
  text "AP33" at 10.395,-10.725 h0.18
  text "AN34" at 11.045,-10.075 h0.18
  text "AF19" at 1.295,-5.525 h0.18
  text "AL20" at 1.945,-8.775 h0.18
  text "AK20" at 1.945,-8.125 h0.18
  text "AL18" at 0.645,-8.775 h0.18
  text "AK18" at 0.645,-8.125 h0.18
  text "AL19" at 1.295,-8.775 h0.18
  text "AK19" at 1.295,-8.125 h0.18
  text "AL21" at 2.595,-8.775 h0.18
  text "AK21" at 2.595,-8.125 h0.18
  text "AL22" at 3.245,-8.775 h0.18
  text "AK22" at 3.245,-8.125 h0.18
  text "AG1" at -10.485,-6.175 h0.18
  text "AG2" at -9.835,-6.175 h0.18
  text "AP2" at -9.835,-10.725 h0.18
  text "AN2" at -9.835,-10.075 h0.18
  text "AE8" at -5.935,-4.875 h0.18
  text "AF5" at -7.885,-5.525 h0.18
  text "AF6" at -7.235,-5.525 h0.18
  text "AG4" at -8.535,-6.175 h0.18
  text "AG5" at -7.885,-6.175 h0.18
  text "AH5" at -7.885,-6.825 h0.18
  text "AH6" at -7.235,-6.825 h0.18
  text "AJ4" at -8.535,-7.475 h0.18
  text "AJ5" at -7.885,-7.475 h0.18
  text "AE5" at -7.885,-4.875 h0.18
  text "AF3" at -9.185,-5.525 h0.18
  text "AE4" at -8.535,-4.875 h0.18
  text "AD4" at -8.535,-4.225 h0.18
  text "AK16" at -0.655,-8.125 h0.18
  text "AN17" at -0.005,-10.075 h0.18
  text "AM17" at -0.005,-9.425 h0.18
  text "AL17" at -0.005,-8.775 h0.18
  text "AK17" at -0.005,-8.125 h0.18
  text "AF18" at 0.645,-5.525 h0.18
  text "H7" at -6.665,6.175 h0.18
  text "AP23" at 3.895,-10.725 h0.18
  text "K32" at 9.665,4.875 h0.18
  text "T26" at 5.765,0.975 h0.18
  text "AJ8" at -5.935,-7.475 h0.18
  text "AL3" at -9.185,-8.775 h0.18
  text "Y5" at -7.965,-1.625 h0.18
  text "W9" at -5.365,-0.975 h0.18
  text "W10" at -4.635,-0.975 h0.18
  text "AA11" at -3.905,-2.275 h0.18
  text "Y11" at -3.985,-1.625 h0.18
  text "N14" at -2.035,2.925 h0.18
  text "F20" at 1.865,7.475 h0.18
  text "F21" at 2.515,7.475 h0.18
  text "F22" at 3.165,7.475 h0.18
  text "G22" at 3.165,6.825 h0.18
  text "J22" at 3.165,5.525 h0.18
  text "K22" at 3.165,4.875 h0.18
  text "R21" at 2.515,1.625 h0.18
  text "R20" at 1.865,1.625 h0.18
  text "U20" at 1.865,0.325 h0.18
  text "Y19" at 1.215,-1.625 h0.18
  text "W16" at -0.735,-0.975 h0.18
  text "AA16" at -0.655,-2.275 h0.18
  text "AC24" at 4.545,-3.575 h0.18
  text "AD25" at 5.195,-4.225 h0.18
  text "P9" at -5.365,2.275 h0.18
  text "P8" at -6.015,2.275 h0.18
  text "C22" at 3.165,9.425 h0.18
  text "AA31" at 9.095,-2.275 h0.18
  text "N32" at 9.665,2.925 h0.18
  text "AL5" at -7.885,-8.775 h0.18
  text "AJ9" at -5.285,-7.475 h0.18
  text "AP34" at 11.045,-10.725 h0.18
  text "U34" at 10.965,0.325 h0.18
  text "AP1" at -10.485,-10.725 h0.18
  text "AM24" at 4.545,-9.425 h0.18
  text "AL25" at 5.195,-8.775 h0.18
  text "AM26" at 5.845,-9.425 h0.18
  text "AN31" at 9.095,-10.075 h0.18
  text "AM30" at 8.445,-9.425 h0.18
  text "AC27" at 6.495,-3.575 h0.18
  text "AB27" at 6.495,-2.925 h0.18
  text "AB29" at 7.795,-2.925 h0.18
  text "AB32" at 9.745,-2.925 h0.18
  text "U19" at 1.215,0.325 h0.18
  text "M32" at 9.665,3.575 h0.18
  text "T33" at 10.315,0.975 h0.18
  text "R33" at 10.315,1.625 h0.18
  text "P34" at 10.965,2.275 h0.18
  text "J32" at 9.665,5.525 h0.18
  text "L31" at 9.015,4.225 h0.18
  text "K31" at 9.015,4.875 h0.18
  text "A1" at -10.565,10.725 h0.18
  text "B24" at 4.465,10.075 h0.18
  text "C30" at 8.365,9.425 h0.18
  text "C28" at 7.065,9.425 h0.18
  text "C32" at 9.665,9.425 h0.18
  text "B33" at 10.315,10.075 h0.18
  text "A34" at 10.965,10.725 h0.18
  text "D31" at 9.015,8.775 h0.18
  text "F11" at -3.985,7.475 h0.18
  text "J4" at -8.615,5.525 h0.18
  text "J3" at -9.265,5.525 h0.18
  text "H6" at -7.315,6.175 h0.18
  text "R28" at 7.065,1.625 h0.18
  text "H31" at 9.015,6.175 h0.18
  text "Y28" at 7.065,-1.625 h0.18
  text "V30" at 8.365,-0.325 h0.18
  text "AF27" at 6.495,-5.525 h0.18
  text "Y23" at 3.815,-1.625 h0.18
  text "J25" at 5.115,5.525 h0.18
  text "T27" at 6.415,0.975 h0.18
  text "R26" at 5.765,1.625 h0.18
  text "AK10" at -4.555,-8.125 h0.18
  text "T19" at 1.215,0.975 h0.18
  text "T20" at 1.865,0.975 h0.18
  text "R19" at 1.215,1.625 h0.18
  text "P19" at 1.215,2.275 h0.18
  text "AH11" at -3.905,-6.825 h0.18
  text "AG6" at -7.235,-6.175 h0.18
  text "AE11" at -3.905,-4.875 h0.18
  text "AD11" at -3.905,-4.225 h0.18
  text "Y8" at -6.015,-1.625 h0.18
  text "V8" at -6.015,-0.325 h0.18
  text "P14" at -2.035,2.275 h0.18
  text "Y12" at -3.335,-1.625 h0.18
  text "N15" at -1.385,2.925 h0.18
  text "R18" at 0.565,1.625 h0.18
  text "J19" at 1.215,5.525 h0.18
  text "K18" at 0.565,4.875 h0.18
  text "J29" at 7.715,5.525 h0.18
  text "P26" at 5.765,2.275 h0.18
  text "N26" at 5.765,2.925 h0.18
  text "N25" at 5.115,2.925 h0.18
  text "P25" at 5.115,2.275 h0.18
  text "R25" at 5.115,1.625 h0.18
  text "AM9" at -5.285,-9.425 h0.18
  text "AM8" at -5.935,-9.425 h0.18
  text "AN7" at -6.585,-10.075 h0.18
  text "AP17" at -0.005,-10.725 h0.18
  text "AJ18" at 0.645,-7.475 h0.18
  text "AM28" at 7.145,-9.425 h0.18
  text "P1" at -10.565,2.275 h0.18
  text "L1" at -10.565,4.225 h0.18
  text "N29" at 7.715,2.925 h0.18
  text "M29" at 7.715,3.575 h0.18
  text "E6" at -7.315,8.125 h0.18
  text "G6" at -7.315,6.825 h0.18
  text "F7" at -6.665,7.475 h0.18
  text "E18" at 0.565,8.125 h0.18
  text "E22" at 3.165,8.125 h0.18
  text "C26" at 5.765,9.425 h0.18
  text "B27" at 6.415,10.075 h0.18
  text "E32" at 9.665,8.125 h0.18
  text "F31" at 9.015,7.475 h0.18
  text "F15" at -1.385,7.475 h0.18
  text "E12" at -3.335,8.125 h0.18
  text "F13" at -2.685,7.475 h0.18
  text "F14" at -2.035,7.475 h0.18
  text "F16" at -0.735,7.475 h0.18
  text "K8" at -6.015,4.875 h0.18
  text "K9" at -5.365,4.875 h0.18
  text "M9" at -5.365,3.575 h0.18
  text "L9" at -5.365,4.225 h0.18
  text "N9" at -5.365,2.925 h0.18
  text "H10" at -4.635,6.175 h0.18
  text "J11" at -3.985,5.525 h0.18
  text "H12" at -3.335,6.175 h0.18
  text "J12" at -3.335,5.525 h0.18
  text "J13" at -2.685,5.525 h0.18
  text "H14" at -2.035,6.175 h0.18
  text "J14" at -2.035,5.525 h0.18
  text "G15" at -1.385,6.825 h0.18
  text "J15" at -1.385,5.525 h0.18
  text "J16" at -0.735,5.525 h0.18
  text "J10" at -4.635,5.525 h0.18
  text "E8" at -6.015,8.125 h0.18
  text "F9" at -5.365,7.475 h0.18
  text "F10" at -4.635,7.475 h0.18
  text "G10" at -4.635,6.825 h0.18
  text "B19" at 1.215,10.075 h0.18
  text "C20" at 1.865,9.425 h0.18
  text "C21" at 2.515,9.425 h0.18
  text "W17" at -0.085,-0.975 h0.18
  text "AF24" at 4.545,-5.525 h0.18
  text "AF25" at 5.195,-5.525 h0.18
  text "AD26" at 5.845,-4.225 h0.18
  text "AF28" at 7.145,-5.525 h0.18
  text "AF29" at 7.795,-5.525 h0.18
  text "AF30" at 8.445,-5.525 h0.18
  text "AF31" at 9.095,-5.525 h0.18
  text "AG30" at 8.445,-6.175 h0.18
  text "AJ30" at 8.445,-7.475 h0.18
  text "AF32" at 9.745,-5.525 h0.18
  text "AE26" at 5.845,-4.875 h0.18
  text "AD24" at 4.545,-4.225 h0.18
  text "AK29" at 7.795,-8.125 h0.18
  text "AK28" at 7.145,-8.125 h0.18
  text "AE24" at 4.545,-4.875 h0.18
  text "V5" at -7.965,-0.325 h0.18
  text "J21" at 2.515,5.525 h0.18
  text "J20" at 1.865,5.525 h0.18
  text "P15" at -1.385,2.275 h0.18
  text "L16" at -0.735,4.225 h0.18
  text "P18" at 0.565,2.275 h0.18
  text "U15" at -1.385,0.325 h0.18
  text "T25" at 5.115,0.975 h0.18
  text "AN12" at -3.255,-10.075 h0.18
  text "AM18" at 0.645,-9.425 h0.18
  text "AM20" at 1.945,-9.425 h0.18
  text "AN23" at 3.895,-10.075 h0.18
  text "AM23" at 3.895,-9.425 h0.18
  text "AM4" at -8.535,-9.425 h0.18
  text "AH4" at -8.535,-6.825 h0.18
  text "AJ3" at -9.185,-7.475 h0.18
  text "AH12" at -3.255,-6.825 h0.18
  text "AG18" at 0.645,-6.175 h0.18
  text "AC12" at -3.255,-3.575 h0.18
  text "C18" at 0.565,9.425 h0.18
  text "M20" at 1.865,3.575 h0.18
  text "P20" at 1.865,2.275 h0.18
  text "N20" at 1.865,2.925 h0.18
  text "AB18" at 0.645,-2.925 h0.18
  text "K26" at 5.765,4.875 h0.18
  text "N22" at 3.165,2.925 h0.18
  text "R22" at 3.165,1.625 h0.18
  text "R24" at 4.465,1.625 h0.18
  text "R23" at 3.815,1.625 h0.18
  text "T24" at 4.465,0.975 h0.18
  text "T23" at 3.815,0.975 h0.18
  text "P22" at 3.165,2.275 h0.18
  text "U24" at 4.465,0.325 h0.18
  text "AD8" at -5.935,-4.225 h0.18
  text "AE7" at -6.585,-4.875 h0.18
  text "T9" at -5.365,0.975 h0.18
  text "T6" at -7.315,0.975 h0.18
  text "AE16" at -0.655,-4.875 h0.18
  text "AD16" at -0.655,-4.225 h0.18
  text "AC16" at -0.655,-3.575 h0.18
  text "AJ22" at 3.245,-7.475 h0.18
  text "AJ21" at 2.595,-7.475 h0.18
  text "AJ16" at -0.655,-7.475 h0.18
  text "AJ15" at -1.305,-7.475 h0.18
  text "AJ12" at -3.255,-7.475 h0.18
  text "AJ11" at -3.905,-7.475 h0.18
  text "AJ7" at -6.585,-7.475 h0.18
  text "AG22" at 3.245,-6.175 h0.18
  text "AG21" at 2.595,-6.175 h0.18
  text "AG15" at -1.305,-6.175 h0.18
  text "AG12" at -3.255,-6.175 h0.18
  text "AG10" at -4.555,-6.175 h0.18
  text "AG7" at -6.585,-6.175 h0.18
  text "AE21" at 2.595,-4.875 h0.18
  text "AE20" at 1.945,-4.875 h0.18
  text "AE19" at 1.295,-4.875 h0.18
  text "AE15" at -1.305,-4.875 h0.18
  text "AE14" at -1.955,-4.875 h0.18
  text "AE13" at -2.605,-4.875 h0.18
  text "AE12" at -3.255,-4.875 h0.18
  text "AE9" at -5.285,-4.875 h0.18
  text "AE6" at -7.235,-4.875 h0.18
  text "U31" at 9.015,0.325 h0.18
  text "U30" at 8.365,0.325 h0.18
  text "W27" at 6.415,-0.975 h0.18
  text "V27" at 6.415,-0.325 h0.18
  text "L26" at 5.765,4.225 h0.18
  text "M26" at 5.765,3.575 h0.18
  text "L25" at 5.115,4.225 h0.18
  text "V25" at 5.115,-0.325 h0.18
  text "M25" at 5.115,3.575 h0.18
  text "AA24" at 4.545,-2.275 h0.18
  text "W24" at 4.465,-0.975 h0.18
  text "AB24" at 4.545,-2.925 h0.18
  text "Y24" at 4.465,-1.625 h0.18
  text "V24" at 4.465,-0.325 h0.18
  text "AL23" at 3.895,-8.775 h0.18
  text "AH23" at 3.895,-6.825 h0.18
  text "AA23" at 3.895,-2.275 h0.18
  text "W23" at 3.815,-0.975 h0.18
  text "U23" at 3.815,0.325 h0.18
  text "V23" at 3.815,-0.325 h0.18
  text "AH22" at 3.245,-6.825 h0.18
  text "AF22" at 3.245,-5.525 h0.18
  text "AA22" at 3.245,-2.275 h0.18
  text "AH21" at 2.595,-6.825 h0.18
  text "AF21" at 2.595,-5.525 h0.18
  text "AC21" at 2.595,-3.575 h0.18
  text "AA21" at 2.595,-2.275 h0.18
  text "AD21" at 2.595,-4.225 h0.18
  text "P21" at 2.515,2.275 h0.18
  text "AC20" at 1.945,-3.575 h0.18
  text "AA20" at 1.945,-2.275 h0.18
  text "AD20" at 1.945,-4.225 h0.18
  text "AB20" at 1.945,-2.925 h0.18
  text "AA19" at 1.295,-2.275 h0.18
  text "W19" at 1.215,-0.975 h0.18
  text "AB19" at 1.295,-2.925 h0.18
  text "V19" at 1.215,-0.325 h0.18
  text "AA18" at 0.645,-2.275 h0.18
  text "W18" at 0.565,-0.975 h0.18
  text "Y18" at 0.565,-1.625 h0.18
  text "V18" at 0.565,-0.325 h0.18
  text "AA17" at -0.005,-2.275 h0.18
  text "U17" at -0.085,0.325 h0.18
  text "AB17" at -0.005,-2.925 h0.18
  text "Y17" at -0.085,-1.625 h0.18
  text "C17" at -0.085,9.425 h0.18
  text "U16" at -0.735,0.325 h0.18
  text "AB16" at -0.655,-2.925 h0.18
  text "Y16" at -0.735,-1.625 h0.18
  text "C16" at -0.735,9.425 h0.18
  text "AH15" at -1.305,-6.825 h0.18
  text "AF15" at -1.305,-5.525 h0.18
  text "W15" at -1.385,-0.975 h0.18
  text "R15" at -1.385,1.625 h0.18
  text "Y15" at -1.385,-1.625 h0.18
  text "V15" at -1.385,-0.325 h0.18
  text "T15" at -1.385,0.975 h0.18
  text "M15" at -1.385,3.575 h0.18
  text "C15" at -1.385,9.425 h0.18
  text "AK14" at -1.955,-8.125 h0.18
  text "AF14" at -1.955,-5.525 h0.18
  text "Y14" at -2.035,-1.625 h0.18
  text "M14" at -2.035,3.575 h0.18
  text "C14" at -2.035,9.425 h0.18
  text "AK13" at -2.605,-8.125 h0.18
  text "AF13" at -2.605,-5.525 h0.18
  text "Y13" at -2.685,-1.625 h0.18
  text "C13" at -2.685,9.425 h0.18
  text "AF12" at -3.255,-5.525 h0.18
  text "W12" at -3.335,-0.975 h0.18
  text "AD12" at -3.255,-4.225 h0.18
  text "C12" at -3.335,9.425 h0.18
  text "AL11" at -3.905,-8.775 h0.18
  text "AF11" at -3.905,-5.525 h0.18
  text "AC11" at -3.905,-3.575 h0.18
  text "W11" at -3.985,-0.975 h0.18
  text "R11" at -3.985,1.625 h0.18
  text "N11" at -3.985,2.925 h0.18
  text "AB11" at -3.905,-2.925 h0.18
  text "V11" at -3.985,-0.325 h0.18
  text "T11" at -3.985,0.975 h0.18
  text "P11" at -3.985,2.275 h0.18
  text "M11" at -3.985,3.575 h0.18
  text "C11" at -3.985,9.425 h0.18
  text "AC10" at -4.555,-3.575 h0.18
  text "AA10" at -4.555,-2.275 h0.18
  text "AD10" at -4.555,-4.225 h0.18
  text "AB10" at -4.555,-2.925 h0.18
  text "Y10" at -4.635,-1.625 h0.18
  text "V10" at -4.635,-0.325 h0.18
  text "C10" at -4.635,9.425 h0.18
  text "R9" at -5.365,1.625 h0.18
  text "Y9" at -5.365,-1.625 h0.18
  text "V9" at -5.365,-0.325 h0.18
  text "C9" at -5.365,9.425 h0.18
  text "AH8" at -5.935,-6.825 h0.18
  text "AF8" at -5.935,-5.525 h0.18
  text "AC8" at -5.935,-3.575 h0.18
  text "AA8" at -5.935,-2.275 h0.18
  text "R8" at -6.015,1.625 h0.18
  text "AB8" at -5.935,-2.925 h0.18
  text "C8" at -6.015,9.425 h0.18
  text "AK7" at -6.585,-8.125 h0.18
  text "AF7" at -6.585,-5.525 h0.18
  text "W7" at -6.665,-0.975 h0.18
  text "AB7" at -6.585,-2.925 h0.18
  text "C7" at -6.665,9.425 h0.18
  text "AA6" at -7.235,-2.275 h0.18
  text "W6" at -7.315,-0.975 h0.18
  text "N6" at -7.315,2.925 h0.18
  text "L6" at -7.315,4.225 h0.18
  text "J6" at -7.315,5.525 h0.18
  text "AB6" at -7.235,-2.925 h0.18
  text "Y6" at -7.315,-1.625 h0.18
  text "P6" at -7.315,2.275 h0.18
  text "M6" at -7.315,3.575 h0.18
  text "K6" at -7.315,4.875 h0.18
  text "C6" at -7.315,9.425 h0.18
  text "B6" at -7.315,10.075 h0.18
  text "AK5" at -7.885,-8.125 h0.18
  text "AC5" at -7.885,-3.575 h0.18
  text "R5" at -7.965,1.625 h0.18
  text "J5" at -7.965,5.525 h0.18
  text "AD5" at -7.885,-4.225 h0.18
  text "AB5" at -7.885,-2.925 h0.18
  text "C5" at -7.965,9.425 h0.18
  text "AL4" at -8.535,-8.775 h0.18
  text "AK4" at -8.535,-8.125 h0.18
  text "AC4" at -8.535,-3.575 h0.18
  text "V4" at -8.615,-0.325 h0.18
  text "C4" at -8.615,9.425 h0.18
  text "AC3" at -9.185,-3.575 h0.18
  text "AA3" at -9.185,-2.275 h0.18
  text "W3" at -9.265,-0.975 h0.18
  text "U3" at -9.265,0.325 h0.18
  text "R3" at -9.265,1.625 h0.18
  text "N3" at -9.265,2.925 h0.18
  text "L3" at -9.265,4.225 h0.18
  text "AB3" at -9.185,-2.925 h0.18
  text "Y3" at -9.265,-1.625 h0.18
  text "V3" at -9.265,-0.325 h0.18
  text "T3" at -9.265,0.975 h0.18
  text "P3" at -9.265,2.275 h0.18
  text "M3" at -9.265,3.575 h0.18
  text "K3" at -9.265,4.875 h0.18
  text "H3" at -9.265,6.175 h0.18
  text "G3" at -9.265,6.825 h0.18
  text "F3" at -9.265,7.475 h0.18
  text "E3" at -9.265,8.125 h0.18
  text "D3" at -9.265,8.775 h0.18
  text "C3" at -9.265,9.425 h0.18
  text "W2" at -9.915,-0.975 h0.18
  text "A14" at -2.035,10.725 h0.18
  text "A11" at -3.985,10.725 h0.18
  text "AK11" at -3.905,-8.125 h0.18
  text "AK12" at -3.255,-8.125 h0.18
  text "AL13" at -2.605,-8.775 h0.18
  text "T18" at 0.565,0.975 h0.18
  text "AJ23" at 3.895,-7.475 h0.18
  text "M22" at 3.165,3.575 h0.18
  text "G21" at 2.515,6.825 h0.18
  text "M18" at 0.565,3.575 h0.18
  text "J18" at 0.565,5.525 h0.18
  text "N18" at 0.565,2.925 h0.18
  text "F19" at 1.215,7.475 h0.18
  text "G19" at 1.215,6.825 h0.18
  text "H19" at 1.215,6.175 h0.18
  text "L19" at 1.215,4.225 h0.18
  text "E20" at 1.865,8.125 h0.18
  text "L20" at 1.865,4.225 h0.18
  text "K21" at 2.515,4.875 h0.18
  text "L21" at 2.515,4.225 h0.18
  text "H22" at 3.165,6.175 h0.18
  text "L22" at 3.165,4.225 h0.18
  text "C23" at 3.815,9.425 h0.18
  text "D23" at 3.815,8.775 h0.18
  text "E23" at 3.815,8.125 h0.18
  text "F23" at 3.815,7.475 h0.18
  text "D24" at 4.465,8.775 h0.18
  text "J24" at 4.465,5.525 h0.18
  text "H25" at 5.115,6.175 h0.18
  text "J23" at 3.815,5.525 h0.18
  text "G25" at 5.115,6.825 h0.18
  text "H26" at 5.765,6.175 h0.18
  text "Y20" at 1.865,-1.625 h0.18
  text "W20" at 1.865,-0.975 h0.18
  text "AF16" at -0.655,-5.525 h0.18
  text "AE18" at 0.645,-4.875 h0.18
  text "AG3" at -9.185,-6.175 h0.18
  text "AE3" at -9.185,-4.875 h0.18
  text "AF4" at -8.535,-5.525 h0.18
  text "AK23" at 3.895,-8.125 h0.18
  text "AM22" at 3.245,-9.425 h0.18
  text "U12" at -3.335,0.325 h0.18
  text "T13" at -2.685,0.975 h0.18
  text "R13" at -2.685,1.625 h0.18
  text "U13" at -2.685,0.325 h0.18
  text "J28" at 7.065,5.525 h0.18
  text "J27" at 6.415,5.525 h0.18
  text "H28" at 7.065,6.175 h0.18
  text "G32" at 9.665,6.825 h0.18
  text "AM2" at -9.835,-9.425 h0.18
  text "A33" at 10.315,10.725 h0.18
  text "B34" at 10.965,10.075 h0.18
  text "AH9" at -5.285,-6.825 h0.18
  text "AG9" at -5.285,-6.175 h0.18
  text "AP12" at -3.255,-10.725 h0.18
  text "AP7" at -6.585,-10.725 h0.18
  text "AG16" at -0.655,-6.175 h0.18
  text "AH16" at -0.655,-6.825 h0.18
  text "AN1" at -10.485,-10.075 h0.18
  text "K23" at 3.815,4.875 h0.18
  text "K24" at 4.465,4.875 h0.18
  text "L23" at 3.815,4.225 h0.18
  text "L24" at 4.465,4.225 h0.18
  text "N24" at 4.465,2.925 h0.18
  text "P24" at 4.465,2.275 h0.18
  text "M24" at 4.465,3.575 h0.18
  text "N23" at 3.815,2.925 h0.18
  text "P23" at 3.815,2.275 h0.18
  text "M23" at 3.815,3.575 h0.18
  text "R17" at -0.085,1.625 h0.18
  text "P17" at -0.085,2.275 h0.18
  text "M16" at -0.735,3.575 h0.18
  text "M17" at -0.085,3.575 h0.18
  text "N17" at -0.085,2.925 h0.18
  text "R16" at -0.735,1.625 h0.18
  text "T16" at -0.735,0.975 h0.18
  text "P16" at -0.735,2.275 h0.18
  text "N16" at -0.735,2.925 h0.18
  text "T17" at -0.085,0.975 h0.18
  text "N19" at 1.215,2.925 h0.18
  text "M19" at 1.215,3.575 h0.18
  text "AA12" at -3.255,-2.275 h0.18
  text "AB12" at -3.255,-2.925 h0.18
  text "AD15" at -1.305,-4.225 h0.18
  text "AD14" at -1.955,-4.225 h0.18
  text "AA15" at -1.305,-2.275 h0.18
  text "AB15" at -1.305,-2.925 h0.18
  text "AC15" at -1.305,-3.575 h0.18
  text "AC14" at -1.955,-3.575 h0.18
  text "AB14" at -1.955,-2.925 h0.18
  text "AC13" at -2.605,-3.575 h0.18
  text "AA13" at -2.605,-2.275 h0.18
  text "AD13" at -2.605,-4.225 h0.18
  text "AB13" at -2.605,-2.925 h0.18
  text "AA14" at -1.955,-2.275 h0.18
  text "AC23" at 3.895,-3.575 h0.18
  text "AD23" at 3.895,-4.225 h0.18
  text "AC22" at 3.245,-3.575 h0.18
  text "AD22" at 3.245,-4.225 h0.18
  text "AB22" at 3.245,-2.925 h0.18
  text "AB21" at 2.595,-2.925 h0.18
  text "AE23" at 3.895,-4.875 h0.18
  text "AE22" at 3.245,-4.875 h0.18
  text "AB23" at 3.895,-2.925 h0.18
  text "AP4" at -8.535,-10.725 h0.18
  text "A28" at 7.065,10.725 h0.18
  text "D32" at 9.665,8.775 h0.18
  text "F33" at 10.315,7.475 h0.18
  text "C29" at 7.715,9.425 h0.18
  text "E33" at 10.315,8.125 h0.18
  text "D33" at 10.315,8.775 h0.18
  text "B29" at 7.715,10.075 h0.18
  text "C33" at 10.315,9.425 h0.18
  text "AH31" at 9.095,-6.825 h0.18
  text "E34" at 10.965,8.125 h0.18
  text "C34" at 10.965,9.425 h0.18
  text "AJ34" at 11.045,-7.475 h0.18
  text "AL32" at 9.745,-8.775 h0.18
  text "AL7" at -6.585,-8.775 h0.18
  text "AG32" at 9.745,-6.175 h0.18
  text "AL34" at 11.045,-8.775 h0.18
  text "AM31" at 9.095,-9.425 h0.18
  text "G33" at 10.315,6.825 h0.18
  text "AH33" at 10.395,-6.825 h0.18
  text "AJ33" at 10.395,-7.475 h0.18
  text "AM32" at 9.745,-9.425 h0.18
  text "AJ31" at 9.095,-7.475 h0.18
  text "B28" at 7.065,10.075 h0.18
  text "AM34" at 11.045,-9.425 h0.18
  text "A30" at 8.365,10.725 h0.18
  text "AG34" at 11.045,-6.175 h0.18
  text "F32" at 9.665,7.475 h0.18
  text "G34" at 10.965,6.825 h0.18
  text "AK33" at 10.395,-8.125 h0.18
  text "AG33" at 10.395,-6.175 h0.18
  text "AG31" at 9.095,-6.175 h0.18
  text "B30" at 8.365,10.075 h0.18
  text "AL31" at 9.095,-8.775 h0.18
  text "C31" at 9.015,9.425 h0.18
  text "AK32" at 9.745,-8.125 h0.18
  text "AK31" at 9.095,-8.125 h0.18
  text "AL6" at -7.235,-8.775 h0.18
  text "AL33" at 10.395,-8.775 h0.18
  text "AH34" at 11.045,-6.825 h0.18
  text "B31" at 9.015,10.075 h0.18
  text "AJ32" at 9.745,-7.475 h0.18
  text "B32" at 9.665,10.075 h0.18
  text "AH32" at 9.745,-6.825 h0.18
  text "AM33" at 10.395,-9.425 h0.18
  text "AK34" at 11.045,-8.125 h0.18
  text "AK6" at -7.235,-8.125 h0.18
  text "A32" at 9.665,10.725 h0.18
  text "AM7" at -6.585,-9.425 h0.18
  text "AL2" at -9.835,-8.775 h0.18
  text "AN4" at -8.535,-10.075 h0.18
  text "AJ1" at -10.485,-7.475 h0.18
  text "AH3" at -9.185,-6.825 h0.18
  text "AN3" at -9.185,-10.075 h0.18
  text "AP6" at -7.235,-10.725 h0.18
  text "AN5" at -7.885,-10.075 h0.18
  text "AL1" at -10.485,-8.775 h0.18
  text "AM3" at -9.185,-9.425 h0.18
  text "AK2" at -9.835,-8.125 h0.18
  text "AJ2" at -9.835,-7.475 h0.18
  text "AH2" at -9.835,-6.825 h0.18
  text "AN6" at -7.235,-10.075 h0.18
  text "AM5" at -7.885,-9.425 h0.18
  text "AK3" at -9.185,-8.125 h0.18
  text "F18" at 0.565,7.475 h0.18
  text "D16" at -0.735,8.775 h0.18
  text "E16" at -0.735,8.125 h0.18
  text "E19" at 1.215,8.125 h0.18
  text "D19" at 1.215,8.775 h0.18
  text "J1" at -10.565,5.525 h0.18
  text "U2" at -9.915,0.325 h0.18
  text "A2" at -9.915,10.725 h0.18
  text "B12" at -3.335,10.075 h0.18
  text "G11" at -3.985,6.825 h0.18
  text "B9" at -5.365,10.075 h0.18
  text "V1" at -10.565,-0.325 h0.18
  text "N2" at -9.915,2.925 h0.18
  text "M8" at -6.015,3.575 h0.18
  text "D13" at -2.685,8.775 h0.18
  text "H16" at -0.735,6.175 h0.18
  text "B14" at -2.035,10.075 h0.18
  text "A21" at 2.515,10.725 h0.18
  text "A3" at -9.265,10.725 h0.18
  text "A9" at -5.365,10.725 h0.18
  text "H15" at -1.385,6.175 h0.18
  text "AA4" at -8.535,-2.275 h0.18
  text "A22" at 3.165,10.725 h0.18
  text "B23" at 3.815,10.075 h0.18
  text "G14" at -2.035,6.825 h0.18
  text "D9" at -5.365,8.775 h0.18
  text "AB4" at -8.535,-2.925 h0.18
  text "B8" at -6.015,10.075 h0.18
  text "G16" at -0.735,6.825 h0.18
  text "E1" at -10.565,8.125 h0.18
  text "F8" at -6.015,7.475 h0.18
  text "P2" at -9.915,2.275 h0.18
  text "F1" at -10.565,7.475 h0.18
  text "D22" at 3.165,8.775 h0.18
  text "F4" at -8.615,7.475 h0.18
  text "B7" at -6.665,10.075 h0.18
  text "J2" at -9.915,5.525 h0.18
  text "L5" at -7.965,4.225 h0.18
  text "E4" at -8.615,8.125 h0.18
  text "A20" at 1.865,10.725 h0.18
  text "F5" at -7.965,7.475 h0.18
  text "D2" at -9.915,8.775 h0.18
  text "D11" at -3.985,8.775 h0.18
  text "A12" at -3.335,10.725 h0.18
  text "B10" at -4.635,10.075 h0.18
  text "M31" at 9.015,3.575 h0.18
  text "A16" at -0.735,10.725 h0.18
  text "A5" at -7.965,10.725 h0.18
  text "T34" at 10.965,0.975 h0.18
  text "H2" at -9.915,6.175 h0.18
  text "Y4" at -8.615,-1.625 h0.18
  text "D20" at 1.865,8.775 h0.18
  text "L8" at -6.015,4.225 h0.18
  text "E13" at -2.685,8.125 h0.18
  text "D1" at -10.565,8.775 h0.18
  text "B18" at 0.565,10.075 h0.18
  text "D4" at -8.615,8.775 h0.18
  text "L7" at -6.665,4.225 h0.18
  text "D21" at 2.515,8.775 h0.18
  text "E21" at 2.515,8.125 h0.18
  text "K2" at -9.915,4.875 h0.18
  text "N7" at -6.665,2.925 h0.18
  text "AA5" at -7.885,-2.275 h0.18
  text "B4" at -8.615,10.075 h0.18
  text "N1" at -10.565,2.925 h0.18
  text "B22" at 3.165,10.075 h0.18
  text "A15" at -1.385,10.725 h0.18
  text "B15" at -1.385,10.075 h0.18
  text "E11" at -3.985,8.125 h0.18
  text "G4" at -8.615,6.825 h0.18
  text "AA1" at -10.485,-2.275 h0.18
  text "P5" at -7.965,2.275 h0.18
  text "N5" at -7.965,2.925 h0.18
  text "Y2" at -9.915,-1.625 h0.18
  text "G2" at -9.915,6.825 h0.18
  text "L2" at -9.915,4.225 h0.18
  text "E9" at -5.365,8.125 h0.18
  text "A18" at 0.565,10.725 h0.18
  text "M1" at -10.565,3.575 h0.18
  text "B17" at -0.085,10.075 h0.18
  text "A23" at 3.815,10.725 h0.18
  text "J7" at -6.665,5.525 h0.18
  text "AC2" at -9.835,-3.575 h0.18
  text "Y1" at -10.565,-1.625 h0.18
  text "L4" at -8.615,4.225 h0.18
  text "B5" at -7.965,10.075 h0.18
  text "AB2" at -9.835,-2.925 h0.18
  text "H11" at -3.985,6.175 h0.18
  text "K1" at -10.565,4.875 h0.18
  text "B2" at -9.915,10.075 h0.18
  text "B1" at -10.565,10.075 h0.18
  text "T4" at -8.615,0.975 h0.18
  text "C1" at -10.565,9.425 h0.18
  text "B13" at -2.685,10.075 h0.18
  text "U1" at -10.565,0.325 h0.18
  text "M2" at -9.915,3.575 h0.18
  text "A10" at -4.635,10.725 h0.18
  text "AB1" at -10.485,-2.925 h0.18
  text "C2" at -9.915,9.425 h0.18
  text "G13" at -2.685,6.825 h0.18
  text "A6" at -7.315,10.725 h0.18
  text "A13" at -2.685,10.725 h0.18
  text "F2" at -9.915,7.475 h0.18
  text "R7" at -6.665,1.625 h0.18
  text "R6" at -7.315,1.625 h0.18
  text "B11" at -3.985,10.075 h0.18
  text "T8" at -6.015,0.975 h0.18
  text "G1" at -10.565,6.825 h0.18
  text "D5" at -7.965,8.775 h0.18
  text "A4" at -8.615,10.725 h0.18
  text "A19" at 1.215,10.725 h0.18
  text "R2" at -9.915,1.625 h0.18
  text "W1" at -10.565,-0.975 h0.18
  text "F12" at -3.335,7.475 h0.18
  text "AC1" at -10.485,-3.575 h0.18
  text "R1" at -10.565,1.625 h0.18
  text "N4" at -8.615,2.925 h0.18
  text "P7" at -6.665,2.275 h0.18
  text "E2" at -9.915,8.125 h0.18
  text "G12" at -3.335,6.825 h0.18
  text "A17" at -0.085,10.725 h0.18
  text "E14" at -2.035,8.125 h0.18
  text "A8" at -6.015,10.725 h0.18
  text "B21" at 2.515,10.075 h0.18
  text "U4" at -8.615,0.325 h0.18
  text "T2" at -9.915,0.975 h0.18
  text "T1" at -10.565,0.975 h0.18
  text "AA2" at -9.835,-2.275 h0.18
  text "P4" at -8.615,2.275 h0.18
  text "J8" at -6.015,5.525 h0.18
  text "E5" at -7.965,8.125 h0.18
  text "B16" at -0.735,10.075 h0.18
  text "M5" at -7.965,3.575 h0.18
  text "B20" at 1.865,10.075 h0.18
  text "U5" at -7.965,0.325 h0.18
  text "H1" at -10.565,6.175 h0.18
  text "T7" at -6.665,0.975 h0.18
  text "B3" at -9.265,10.075 h0.18
  text "V2" at -9.915,-0.325 h0.18
  text "A7" at -6.665,10.725 h0.18
  text "A25" at 5.115,10.725 h0.18
  text "AE29" at 7.795,-4.875 h0.18
  text "L29" at 7.715,4.225 h0.18
  text "Y31" at 9.015,-1.625 h0.18
  text "AD28" at 7.145,-4.225 h0.18
  text "K34" at 10.965,4.875 h0.18
  text "K33" at 10.315,4.875 h0.18
  text "J33" at 10.315,5.525 h0.18
  text "AK27" at 6.495,-8.125 h0.18
  text "J34" at 10.965,5.525 h0.18
  text "T32" at 9.665,0.975 h0.18
  text "AL27" at 6.495,-8.775 h0.18
  text "T30" at 8.365,0.975 h0.18
  text "AF2" at -9.835,-5.525 h0.18
  text "AF1" at -10.485,-5.525 h0.18
  text "AE2" at -9.835,-4.875 h0.18
  text "AE1" at -10.485,-4.875 h0.18
  text "W8" at -6.015,-0.975 h0.18
  text "AM14" at -1.955,-9.425 h0.18
  text "T22" at 3.165,0.975 h0.18
  text "Y22" at 3.165,-1.625 h0.18
  text "Y21" at 2.515,-1.625 h0.18
  text "W21" at 2.515,-0.975 h0.18
  text "W22" at 3.165,-0.975 h0.18
  text "U21" at 2.515,0.325 h0.18
  text "T21" at 2.515,0.975 h0.18
  text "V22" at 3.165,-0.325 h0.18
  text "U22" at 3.165,0.325 h0.18
  text "V21" at 2.515,-0.325 h0.18
  text "P29" at 7.715,2.275 h0.18
  text "M10" at -4.635,3.575 h0.18
  text "N10" at -4.635,2.925 h0.18
  text "T10" at -4.635,0.975 h0.18
  text "R10" at -4.635,1.625 h0.18
  text "P10" at -4.635,2.275 h0.18
  text "K15" at -1.385,4.875 h0.18
  text "K12" at -3.335,4.875 h0.18
  text "K11" at -3.985,4.875 h0.18
  text "K13" at -2.685,4.875 h0.18
  text "K14" at -2.035,4.875 h0.18
  text "R29" at 7.715,1.625 h0.18
  text "F24" at 4.465,7.475 h0.18
  text "W28" at 7.065,-0.975 h0.18
  text "F25" at 5.115,7.475 h0.18
  text "Y32" at 9.665,-1.625 h0.18
  text "AA34" at 11.045,-2.275 h0.18
  text "V34" at 10.965,-0.325 h0.18
  text "V33" at 10.315,-0.325 h0.18
  text "AA32" at 9.745,-2.275 h0.18
  text "W33" at 10.315,-0.975 h0.18
  text "V28" at 7.065,-0.325 h0.18
  text "R31" at 9.015,1.625 h0.18
  text "R32" at 9.665,1.625 h0.18
  text "G29" at 7.715,6.825 h0.18
  text "B26" at 5.765,10.075 h0.18
  text "C24" at 4.465,9.425 h0.18
  text "G27" at 6.415,6.825 h0.18
  text "AA28" at 7.145,-2.275 h0.18
  text "Y29" at 7.715,-1.625 h0.18
  text "Y27" at 6.415,-1.625 h0.18
  text "AB28" at 7.145,-2.925 h0.18
  text "AK15" at -1.305,-8.125 h0.18
  text "AE28" at 7.145,-4.875 h0.18
  text "AL16" at -0.655,-8.775 h0.18
  text "AJ24" at 4.545,-7.475 h0.18
  text "AJ10" at -4.555,-7.475 h0.18
  text "AC26" at 5.845,-3.575 h0.18
  text "P28" at 7.065,2.275 h0.18
  text "W26" at 5.765,-0.975 h0.18
  text "Y7" at -6.665,-1.625 h0.18
  text "AM29" at 7.795,-9.425 h0.18
  text "AL30" at 8.445,-8.775 h0.18
  text "AK30" at 8.445,-8.125 h0.18
  text "M33" at 10.315,3.575 h0.18
  text "AM27" at 6.495,-9.425 h0.18
  text "A27" at 6.415,10.725 h0.18
  text "AM25" at 5.195,-9.425 h0.18
  text "B25" at 5.115,10.075 h0.18
  text "C25" at 5.115,9.425 h0.18
  text "C27" at 6.415,9.425 h0.18
  text "D25" at 5.115,8.775 h0.18
  text "A26" at 5.765,10.725 h0.18
  text "AK25" at 5.195,-8.125 h0.18
  text "AJ25" at 5.195,-7.475 h0.18
  text "D26" at 5.765,8.775 h0.18
  text "M30" at 8.365,3.575 h0.18
  text "D27" at 6.415,8.775 h0.18
  text "E24" at 4.465,8.125 h0.18
  text "E25" at 5.115,8.125 h0.18
  text "AL24" at 4.545,-8.775 h0.18
  text "AD32" at 9.745,-4.225 h0.18
  text "V31" at 9.015,-0.325 h0.18
  text "W31" at 9.015,-0.975 h0.18
  text "AC31" at 9.095,-3.575 h0.18
  text "M34" at 10.965,3.575 h0.18
  text "AB33" at 10.395,-2.925 h0.18
  text "AG26" at 5.845,-6.175 h0.18
  text "N33" at 10.315,2.925 h0.18
  text "AK24" at 4.545,-8.125 h0.18
  text "AP10" at -4.555,-10.725 h0.18
  text "AE32" at 9.745,-4.875 h0.18
  text "W30" at 8.365,-0.975 h0.18
  text "W29" at 7.715,-0.975 h0.18
  text "N34" at 10.965,2.925 h0.18
  text "AG11" at -3.905,-6.175 h0.18
  text "AG13" at -2.605,-6.175 h0.18
  text "AG14" at -1.955,-6.175 h0.18
  text "AH18" at 0.645,-6.825 h0.18
  text "K27" at 6.415,4.875 h0.18
  text "L27" at 6.415,4.225 h0.18
  text "N27" at 6.415,2.925 h0.18
  text "M27" at 6.415,3.575 h0.18
  text "H23" at 3.815,6.175 h0.18
  text "G23" at 3.815,6.825 h0.18
  text "K16" at -0.735,4.875 h0.18
  text "U18" at 0.565,0.325 h0.18
  text "M12" at -3.335,3.575 h0.18
  text "AC6" at -7.235,-3.575 h0.18
  text "AD6" at -7.235,-4.225 h0.18
  text "AD7" at -6.585,-4.225 h0.18
  text "AC7" at -6.585,-3.575 h0.18
  text "AA26" at 5.845,-2.275 h0.18
  text "AB26" at 5.845,-2.925 h0.18
  text "AJ19" at 1.295,-7.475 h0.18
  text "P27" at 6.415,2.275 h0.18
  text "V20" at 1.865,-0.325 h0.18
  text "T31" at 9.015,0.975 h0.18
  text "L15" at -1.385,4.225 h0.18
  text "N12" at -3.335,2.925 h0.18
  text "AJ13" at -2.605,-7.475 h0.18
  text "AH13" at -2.605,-6.825 h0.18
  text "AJ14" at -1.955,-7.475 h0.18
  text "AH14" at -1.955,-6.825 h0.18
  text "M28" at 7.065,3.575 h0.18
  text "K28" at 7.065,4.875 h0.18
  text "L28" at 7.065,4.225 h0.18
  text "E30" at 8.365,8.125 h0.18
  text "AD3" at -9.185,-4.225 h0.18
  text "G24" at 4.465,6.825 h0.18
  text "H24" at 4.465,6.175 h0.18
  text "AB25" at 5.195,-2.925 h0.18
  text "AA25" at 5.195,-2.275 h0.18
  text "AH10" at -4.555,-6.825 h0.18
  text "AG19" at 1.295,-6.175 h0.18
  text "E29" at 7.715,8.125 h0.18
  text "AM10" at -4.555,-9.425 h0.18
  text "D29" at 7.715,8.775 h0.18
  text "AC25" at 5.195,-3.575 h0.18
  text "AA7" at -6.585,-2.275 h0.18
  text "N28" at 7.065,2.925 h0.18
  text "V26" at 5.765,-0.325 h0.18
  text "W25" at 5.115,-0.975 h0.18
  text "Y26" at 5.765,-1.625 h0.18
  text "R27" at 6.415,1.625 h0.18
  text "H21" at 2.515,6.175 h0.18
  text "H20" at 1.865,6.175 h0.18
  text "G20" at 1.865,6.825 h0.18
  text "E28" at 7.065,8.125 h0.18
  text "L17" at -0.085,4.225 h0.18
  text "L18" at 0.565,4.225 h0.18
  text "L11" at -3.985,4.225 h0.18
  text "L12" at -3.335,4.225 h0.18
  text "L14" at -2.035,4.225 h0.18
  text "L13" at -2.685,4.225 h0.18
  text "U11" at -3.985,0.325 h0.18
  text "N13" at -2.685,2.925 h0.18
  text "P13" at -2.685,2.275 h0.18
  text "P12" at -3.335,2.275 h0.18
  text "T12" at -3.335,0.975 h0.18
  text "R12" at -3.335,1.625 h0.18
  text "AJ28" at 7.145,-7.475 h0.18
  text "AP11" at -3.905,-10.725 h0.18
  text "AD31" at 9.095,-4.225 h0.18
  text "K30" at 8.365,4.875 h0.18
  text "K29" at 7.715,4.875 h0.18
  text "E31" at 9.015,8.125 h0.18
  text "AH25" at 5.195,-6.825 h0.18
  text "V29" at 7.715,-0.325 h0.18
  text "N31" at 9.015,2.925 h0.18
  text "F30" at 8.365,7.475 h0.18
  text "L10" at -4.635,4.225 h0.18
  text "M13" at -2.685,3.575 h0.18
  text "D28" at 7.065,8.775 h0.18
  text "Y33" at 10.315,-1.625 h0.18
  text "T28" at 7.065,0.975 h0.18
  text "D30" at 8.365,8.775 h0.18
  text "AN10" at -4.555,-10.075 h0.18
  text "R34" at 10.965,1.625 h0.18
  text "N8" at -6.015,2.925 h0.18
  text "H13" at -2.685,6.175 h0.18
  text "AC32" at 9.745,-3.575 h0.18
  text "AL29" at 7.795,-8.775 h0.18
  text "AE31" at 9.095,-4.875 h0.18
  text "AA33" at 10.395,-2.275 h0.18
  text "AL10" at -4.555,-8.775 h0.18
  text "AM16" at -0.655,-9.425 h0.18
  text "AL28" at 7.145,-8.775 h0.18
  text "W32" at 9.665,-0.975 h0.18
  text "AG29" at 7.795,-6.175 h0.18
  text "P32" at 9.665,2.275 h0.18
  text "AN13" at -2.605,-10.075 h0.18
  text "AG28" at 7.145,-6.175 h0.18
  text "AP13" at -2.605,-10.725 h0.18
  text "AP14" at -1.955,-10.725 h0.18
  text "AN14" at -1.955,-10.075 h0.18
  text "AH29" at 7.795,-6.825 h0.18
  text "AL12" at -3.255,-8.775 h0.18
  text "AM12" at -3.255,-9.425 h0.18
  text "AK9" at -5.285,-8.125 h0.18
  text "AL9" at -5.285,-8.775 h0.18
  text "H30" at 8.365,6.175 h0.18
  text "Y30" at 8.365,-1.625 h0.18
  text "H29" at 7.715,6.175 h0.18
  text "W34" at 10.965,-0.975 h0.18
  text "J31" at 9.015,5.525 h0.18
  text "J30" at 8.365,5.525 h0.18
  text "AC9" at -5.285,-3.575 h0.18
  text "AD9" at -5.285,-4.225 h0.18
  text "AA9" at -5.285,-2.275 h0.18
  text "AB9" at -5.285,-2.925 h0.18
  text "Y34" at 10.965,-1.625 h0.18
  text "V32" at 9.665,-0.325 h0.18
  text "AN11" at -3.905,-10.075 h0.18
  text "AL26" at 5.845,-8.775 h0.18
  text "E26" at 5.765,8.125 h0.18
  text "E27" at 6.415,8.125 h0.18
  text "AC33" at 10.395,-3.575 h0.18
  text "AC34" at 11.045,-3.575 h0.18
  text "AJ26" at 5.845,-7.475 h0.18
  text "AE33" at 10.395,-4.875 h0.18
  text "AD33" at 10.395,-4.225 h0.18
  text "G8" at -6.015,6.825 h0.18
  text "AD34" at 11.045,-4.225 h0.18
  text "AE34" at 11.045,-4.875 h0.18
  text "AD30" at 8.445,-4.225 h0.18
  text "AF34" at 11.045,-5.525 h0.18
  text "AJ27" at 6.495,-7.475 h0.18
  text "AB34" at 11.045,-2.925 h0.18
  text "AN8" at -5.935,-10.075 h0.18
  text "AP8" at -5.935,-10.725 h0.18
  text "AK26" at 5.845,-8.125 h0.18
  text "AP9" at -5.285,-10.725 h0.18
  text "AA29" at 7.795,-2.275 h0.18
  text "AN9" at -5.285,-10.075 h0.18
  text "N30" at 8.365,2.925 h0.18
  text "AA30" at 8.445,-2.275 h0.18
  text "AH27" at 6.495,-6.825 h0.18
  text "AC28" at 7.145,-3.575 h0.18
  text "AC29" at 7.795,-3.575 h0.18
  text "AD29" at 7.795,-4.225 h0.18
  text "AD27" at 6.495,-4.225 h0.18
  text "AE27" at 6.495,-4.875 h0.18
  text "AH30" at 8.445,-6.825 h0.18
  text "AH26" at 5.845,-6.825 h0.18
  text "AD1" at -10.485,-4.225 h0.18
  text "AD2" at -9.835,-4.225 h0.18
  text "P33" at 10.315,2.275 h0.18
  text "A24" at 4.465,10.725 h0.18
  text "R30" at 8.365,1.625 h0.18
  text "AP15" at -1.305,-10.725 h0.18
  text "AP16" at -0.655,-10.725 h0.18
  text "AN16" at -0.655,-10.075 h0.18
  text "AN15" at -1.305,-10.075 h0.18
  text "AL15" at -1.305,-8.775 h0.18
  text "AM15" at -1.305,-9.425 h0.18
  text "AH19" at 1.295,-6.825 h0.18
  text "T29" at 7.715,0.975 h0.18
  text "U33" at 10.315,0.325 h0.18
  text "P31" at 9.015,2.275 h0.18
  text "AN20" at 1.945,-10.075 h0.18
  text "AP20" at 1.945,-10.725 h0.18
  text "AN18" at 0.645,-10.075 h0.18
  text "AP18" at 0.645,-10.725 h0.18
  text "AN19" at 1.295,-10.075 h0.18
  text "AP19" at 1.295,-10.725 h0.18
  text "AN21" at 2.595,-10.075 h0.18
  text "AP21" at 2.595,-10.725 h0.18
  text "AN22" at 3.245,-10.075 h0.18
  text "AP22" at 3.245,-10.725 h0.18
  text "AN26" at 5.845,-10.075 h0.18
  text "AP24" at 4.545,-10.725 h0.18
  text "AN24" at 4.545,-10.075 h0.18
  text "AP26" at 5.845,-10.725 h0.18
  text "AP28" at 7.145,-10.725 h0.18
  text "AN25" at 5.195,-10.075 h0.18
  text "AP25" at 5.195,-10.725 h0.18
  text "AP27" at 6.495,-10.725 h0.18
  text "AN27" at 6.495,-10.075 h0.18
  text "AN28" at 7.145,-10.075 h0.18
  text "AG20" at 1.945,-6.175 h0.18
  text "AH20" at 1.945,-6.825 h0.18
  text "AJ20" at 1.945,-7.475 h0.18
  text "P30" at 8.365,2.275 h0.18
  text "N21" at 2.515,2.925 h0.18
  text "M21" at 2.515,3.575 h0.18
  text "U32" at 9.665,0.325 h0.18
  text "W14" at -2.035,-0.975 h0.18
  text "R14" at -2.035,1.625 h0.18
  text "V13" at -2.685,-0.325 h0.18
  text "V14" at -2.035,-0.325 h0.18
  text "T14" at -2.035,0.975 h0.18
  text "U14" at -2.035,0.325 h0.18
  text "W13" at -2.685,-0.975 h0.18
  text "V12" at -3.335,-0.325 h0.18
  text "AC19" at 1.295,-3.575 h0.18
  text "AC17" at -0.005,-3.575 h0.18
  text "AC18" at 0.645,-3.575 h0.18
  text "AD17" at -0.005,-4.225 h0.18
  text "AD18" at 0.645,-4.225 h0.18
  text "AD19" at 1.295,-4.225 h0.18
  text "V17" at -0.085,-0.325 h0.18
  text "V16" at -0.735,-0.325 h0.18
  text "K20" at 1.865,4.875 h0.18
  text "K19" at 1.215,4.875 h0.18
Top Assembly:
  text ".Designator" at -0.711,-0.711 h0.18
  text "RK3588" at -0.66,-0.127 h0.18
3D body: height 3.81, standoff 0, extent -11.5,-11.5 11.5,11.5